# Altium footprint library PcbLib.PcbLib: 27 footprints (part 1 of 2)
Each footprint in its own frame and in the unit in brackets; x right, y up, seen from the top. Pads: shape width x height; smd on the part's side, far side on the other; paste and mask are expansions set on the pad; w line width, h text height; cw(c..) or ccw(c..) is an arc to the next point about the centre after c.
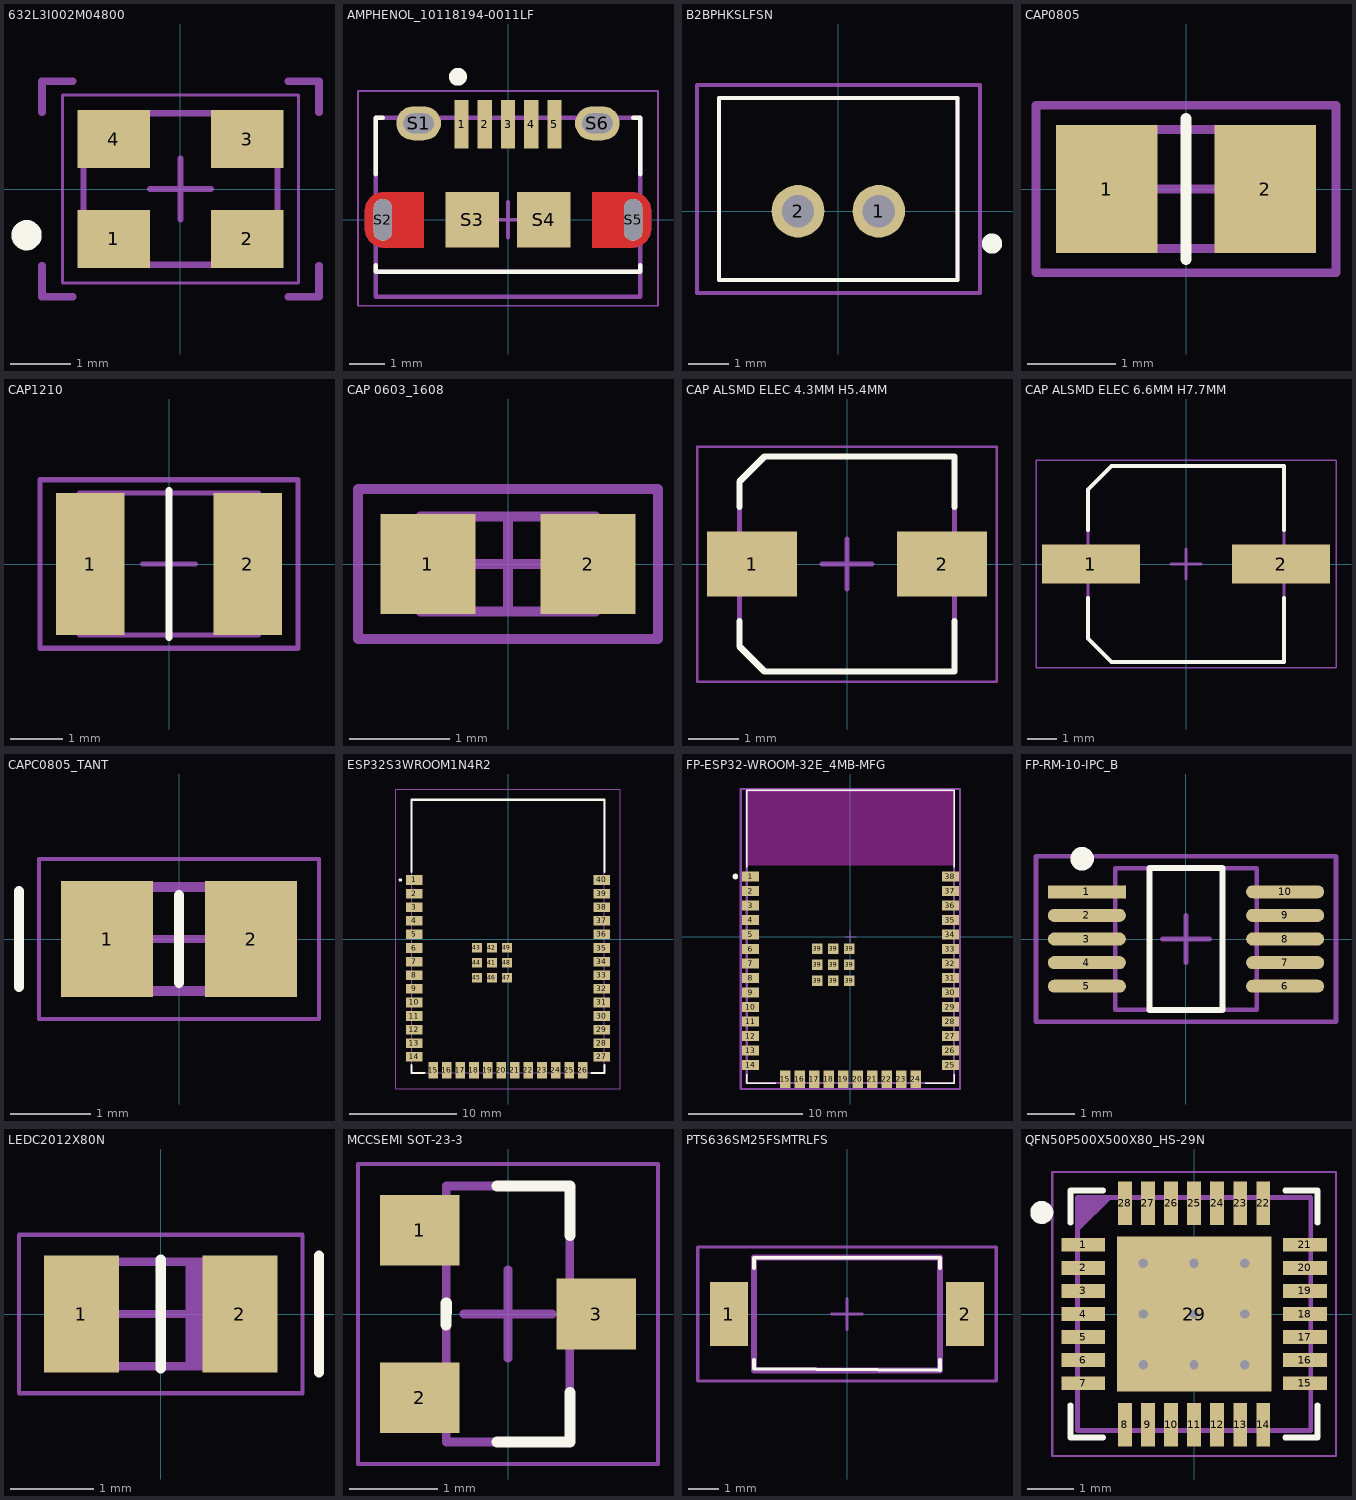
[diagram p0: the footprints below, top view; thin cyan lines are the x and y axes]

## 632L3I002M04800 [mm]
pads (4):
  rect 1.2x0.95 smd: 1(-1.1,-0.825) 2(1.1,-0.825) 3(1.1,0.825) 4(-1.1,0.825)
Top Overlay:
  circle w0.25: c-2.54,-0.762 r0.125
Top 3D Body:
  lines w0.125: -2.286,-1.27 -2.286,-1.778 -1.778,-1.778 ; -2.286,1.27 -2.286,1.778 -1.778,1.778 ; 1.778,-1.778 2.286,-1.778 2.286,-1.27 ; 1.778,1.778 2.286,1.778 2.286,1.27
Mechanical 11:
  lines w0.1: -1.6,-1.25 1.6,-1.25 1.6,1.25 -1.6,1.25 -1.6,-1.25
Mechanical 15:
  lines w0.05: -1.95,-1.55 1.95,-1.55 1.95,1.55 -1.95,1.55 -1.95,-1.55
  lines w0.1: -0.5,0 0.5,0 ; 0,-0.5 0,0.5
3D body "ECS-327KE-TR--3DModel-STEP-40055.STEP": height 1.01, standoff 0.01, extent -1.6,-1.25 1.6,1.25

## AMPHENOL_10118194-0011LF [mm]
height 2.7
pads (11):
  rect 0.4x1.35 smd: 1(-1.3,2.675) 2(-0.65,2.675) 3(0,2.675) 4(0.65,2.675) 5(1.3,2.675)
  oval 1.25x0.95 hole 0.55 slot 0.851 at 0 deg: S1(-2.5,2.7) S6(2.5,2.7)
  oval 0.525x1.175 hole 0.5 slot 1.15 at 90 deg: S2(-3.5,0) S5(3.5,0)
  rect 1.5x1.55 smd: S3(-1,0) S4(1,0)
Top Layer:
  region: 3.5,0.775 3.534,0.773 3.602,0.761 3.668,0.74 3.73,0.711 3.788,0.674 3.841,0.629 3.887,0.578 3.926,0.521 3.958,0.46 3.981,0.395 3.996,0.328 4.002,0.259 4,0.225 4,-0.225 4.002,-0.259 3.996,-0.328 3.981,-0.395 3.958,-0.46 3.926,-0.521 3.887,-0.578 3.841,-0.629 3.788,-0.674 3.73,-0.711 3.668,-0.74 3.602,-0.761 3.534,-0.773 3.5,-0.775 2.355,-0.775 2.355,0.775
  region: -3.5,-0.775 -3.534,-0.773 -3.602,-0.761 -3.668,-0.74 -3.73,-0.711 -3.788,-0.674 -3.841,-0.629 -3.887,-0.578 -3.926,-0.521 -3.958,-0.46 -3.981,-0.395 -3.996,-0.328 -4.002,-0.259 -4,-0.225 -4,0.225 -4.002,0.259 -3.996,0.328 -3.981,0.395 -3.958,0.46 -3.926,0.521 -3.887,0.578 -3.841,0.629 -3.788,0.674 -3.73,0.711 -3.668,0.74 -3.602,0.761 -3.534,0.773 -3.5,0.775 -2.355,0.775 -2.355,-0.775
Bottom Layer:
  region: 3.5,0.775 3.534,0.773 3.602,0.761 3.668,0.74 3.73,0.711 3.788,0.674 3.841,0.629 3.887,0.578 3.926,0.521 3.958,0.46 3.981,0.395 3.996,0.328 4.002,0.259 4,0.225 4,-0.225 4.002,-0.259 3.996,-0.328 3.981,-0.395 3.958,-0.46 3.926,-0.521 3.887,-0.578 3.841,-0.629 3.788,-0.674 3.73,-0.711 3.668,-0.74 3.602,-0.761 3.534,-0.773 3.5,-0.775 2.355,-0.775 2.355,0.775
  region: -3.5,-0.775 -3.534,-0.773 -3.602,-0.761 -3.668,-0.74 -3.73,-0.711 -3.788,-0.674 -3.841,-0.629 -3.887,-0.578 -3.926,-0.521 -3.958,-0.46 -3.981,-0.395 -3.996,-0.328 -4.002,-0.259 -4,-0.225 -4,0.225 -4.002,0.259 -3.996,0.328 -3.981,0.395 -3.958,0.46 -3.926,0.521 -3.887,0.578 -3.841,0.629 -3.788,0.674 -3.73,0.711 -3.668,0.74 -3.602,0.761 -3.534,0.773 -3.5,0.775 -2.355,0.775 -2.355,-0.775
Top Overlay:
  circle w0.25: c-1.4,4 r0.125
  lines w0.125: -3.7,-1.27 -3.7,-1.45 3.7,-1.45 3.7,-1.27 ; -3.7,1.27 -3.7,2.85 -3.505,2.85 ; 3.505,2.85 3.7,2.85 3.7,1.27
Mechanical 11:
  lines w0.127: -3.7,-1.45 -3.7,-2.15 3.7,-2.15 3.7,-1.45 ; -3.7,-1.45 -3.7,2.85 3.7,2.85 3.7,-1.45 ; -3.7,-1.45 3.7,-1.45
Mechanical 15:
  lines w0.05: -4.195,-2.4 -4.195,3.6 4.195,3.6 4.195,-2.4 -4.195,-2.4
  lines w0.1: -0.5,0 0.5,0 ; 0,-0.5 0,0.5
3D body "10118194-xx1xLF.STEP": height 2.62, standoff -0.59, extent -3.815,-2.513 3.7,2.913

## B2BPHKSLFSN [mm]
pads (2):
  round 1.3 hole 0.8: 1(1,0) 2(-1,0)
Top Overlay:
  circle w0.25: c3.8,-0.8 r0.125
  lines w0.1: -2.95,-1.7 -2.95,2.8 2.95,2.8 2.95,-1.7 -2.95,-1.7
Mechanical 11:
  lines w0.1: -2.95,-1.7 -2.95,2.8 2.95,2.8 2.95,-1.7 -2.95,-1.7
Mechanical 15:
  lines w0.1: -3.5,-2.02 3.5,-2.02 3.5,3.12 -3.5,3.12 -3.5,-2.02
3D body "B2B-PH-K-S__LF__SN_.stp": height 5.91, standoff -3.49, extent -2.95,-1.53 2.95,2.97

## CAP0805 [mm] "Chip Capacitor, 2-Leads, Body 2.00x1.25mm, IPC Medium Density"
height 1
pads (2):
  rect 1.15x1.45 smd: 1(-0.9,0) 2(0.9,0)
Top Overlay:
  lines w0.127: 0,-0.8 0,0.8
Mechanical 11:
  lines w0.1: -1.075,-0.675 -1.075,0.675 1.075,0.675 1.075,-0.675 -1.075,-0.675
Mechanical 15:
  lines w0.1: -0.5,0 0.5,0 ; 0,-0.5 0,0.5 ; -1.7,-0.95 -1.7,0.95 1.7,0.95 1.7,-0.95 -1.7,-0.95
3D body: height 1, standoff 0, extent -0.575,-0.675 0.575,0.675
3D body: height 1, standoff 0, extent 0.575,-0.675 1.075,0.675
3D body: height 1, standoff 0, extent -1.075,-0.675 -0.575,0.675

## CAP1210 [mm] "Chip Capacitor, 2-Leads, Body 3.20x2.50mm, IPC Medium Density"
height 1
pads (2):
  rect 1.3x2.7 smd: 1(-1.5,0) 2(1.5,0)
Top Overlay:
  lines w0.127: 0,-1.4 0,1.4
Mechanical 11:
  lines w0.1: -1.7,-1.35 -1.7,1.35 1.7,1.35 1.7,-1.35 -1.7,-1.35
Mechanical 15:
  lines w0.1: -0.5,0 0.5,0 ; 0,-0.5 0,0.5 ; -2.45,-1.6 2.45,-1.6 2.45,1.6 -2.45,1.6 -2.45,-1.6
3D body "CAP 1210-1mm.STEP": height 1, standoff 0, extent -1.6,-1.25 1.6,1.25

## CAP 0603_1608 [mm] "Chip Capacitor, 2-Leads, Body 1.60x0.80mm, IPC Medium Density"
height 0.89
pads (2):
  rect 0.95x1 smd: 1(-0.8,0) 2(0.8,0)
Mechanical 11:
  lines w0.1: -0.875,-0.475 -0.875,0.475 0.875,0.475 0.875,-0.475 -0.875,-0.475
Mechanical 15:
  lines w0.1: -0.475,0 0.475,0 ; 0,-0.475 0,0.475 ; -1.5,-0.75 1.5,-0.75 1.5,0.75 -1.5,0.75 -1.5,-0.75
3D body "0603 cap.STEP": height 0.82, standoff 0, extent -0.8,-0.412 0.8,0.412

## CAP ALSMD ELEC 4.3MM H5.4MM [mm] "Aluminum SMD Electrolytic Capacitor, 4.30mm Land Size, 4.00mm Diameter, 5.40mm Height, 4.60mm Maximum Leads Span"
height 0.65
pads (2):
  rect 1.8x1.3 smd: 1(-1.9,0) 2(1.9,0)
Top Overlay:
  lines w0.125: -2.15,-1.143 -2.15,-1.65 -1.65,-2.15 2.15,-2.15 2.15,-1.143 ; -2.15,1.143 -2.15,1.65 -1.65,2.15 2.15,2.15 2.15,1.143
Mechanical 11:
  lines w0.1: -2.15,-1.65 -1.65,-2.15 2.15,-2.15 2.15,2.15 -1.65,2.15 -2.15,1.65 -2.15,-1.65
Mechanical 15:
  lines w0.05: -3,-2.35 3,-2.35 3,2.35 -3,2.35 -3,-2.35
  lines w0.1: -0.5,0 0.5,0 ; 0,-0.5 0,0.5
3D body ".STEP": height 5.4, standoff 0, extent -2.3,-2.15 2.3,2.15

## CAP ALSMD ELEC 6.6MM H7.7MM [mm] "Aluminum SMD Electrolytic Capacitor, 6.60mm Land Size, 6.30mm Diameter, 7.70mm Height, 8.00mm Maximum Leads Span"
height 0.65
pads (2):
  rect 3.3x1.3 smd: 1(-3.2,0) 2(3.2,0)
Top Overlay:
  lines w0.125: -3.3,-1.143 -3.3,-2.512 -2.512,-3.3 3.3,-3.3 3.3,-1.143 ; -3.3,1.143 -3.3,2.512 -2.512,3.3 3.3,3.3 3.3,1.143
Mechanical 11:
  lines w0.1: -3.3,-2.512 -3.3,2.512 -2.512,3.3 3.3,3.3 3.3,-3.3 -2.512,-3.3 -3.3,-2.512
Mechanical 15:
  lines w0.05: -5.05,-3.5 5.05,-3.5 5.05,3.5 -5.05,3.5 -5.05,-3.5
  lines w0.1: -0.5,0 0.5,0 ; 0,-0.5 0,0.5
3D body ".STEP": height 7.7, standoff 0, extent -4,-3.3 4,3.3

## CAPC0805_TANT [mm]
pads (2):
  rect 1.15x1.45 smd: 1(-0.9,0) 2(0.9,0)
Top Overlay:
  lines w0.125: -2,-0.6 -2,0.6 ; 0,-0.55 0,0.55
Mechanical 11:
  region: -0.5,-0.65 -1,-0.65 -1,0.65 -0.5,0.65
  region: 1,-0.65 0.5,-0.65 0.5,0.65 1,0.65
  lines w0.127: -1,-0.65 1,-0.65 1,0.65 -1,0.65 -1,-0.65
Mechanical 15:
  lines w0.05: -1.75,-1 -1.75,1 1.75,1 1.75,-1 -1.75,-1
  lines w0.1: -0.5,0 0.5,0 ; 0,-0.5 0,0.5
3D body "TPSR105K025R4000.STEP": height 1.21, standoff 0.01, extent -1.025,-0.65 1.025,0.65

## ESP32S3WROOM1N4R2 [mm]
pads (49):
  rect 1.5x0.9 smd: 1(-8.75,5.51) 2(-8.75,4.24) 3(-8.75,2.97) 4(-8.75,1.7) 5(-8.75,0.43) 6(-8.75,-0.84) 7(-8.75,-2.11) 8(-8.75,-3.38) 9(-8.75,-4.65) 10(-8.75,-5.92) 11(-8.75,-7.19) 12(-8.75,-8.46) 13(-8.75,-9.73) 14(-8.75,-11) 27(8.75,-11) 28(8.75,-9.73) 29(8.75,-8.46) 30(8.75,-7.19) 31(8.75,-5.92) 32(8.75,-4.65) 33(8.75,-3.38) 34(8.75,-2.11) 35(8.75,-0.84) 36(8.75,0.43) 37(8.75,1.7) 38(8.75,2.97) 39(8.75,4.24) 40(8.75,5.51)
  rect 0.9x1.5 smd: 15(-6.985,-12.25) 16(-5.715,-12.25) 17(-4.445,-12.25) 18(-3.175,-12.25) 19(-1.905,-12.25) 20(-0.635,-12.25) 21(0.635,-12.25) 22(1.905,-12.25) 23(3.175,-12.25) 24(4.445,-12.25) 25(5.715,-12.25) 26(6.985,-12.25)
  rect 0.9x0.9 smd: 41(-1.5,-2.21) 42(-1.5,-0.81) 43(-2.9,-0.81) 44(-2.9,-2.21) 45(-2.9,-3.61) 46(-1.5,-3.61) 47(-0.1,-3.61) 48(-0.1,-2.21) 49(-0.1,-0.81)
Top Overlay:
  lines w0.2: -9,-11.75 -9,-12.5 -7.8,-12.5 ; -9,6.25 -9,13 9,13 9,6.25 ; 7.8,-12.5 9,-12.5 9,-11.75 ; -10.1,5.51 ccw(c-10.05,5.51) -10,5.51 ; -10.1,5.51 cw(c-10.05,5.51) -10,5.51 ; -10.1,5.51 ccw(c-10.05,5.51) -10,5.51
Mechanical 15:
  lines w0.1: -9,-12.5 9,-12.5 9,13 -9,13 -9,-12.5
Bottom Assembly:
  lines w0.1: -10.5,-14 10.5,-14 10.5,14 -10.5,14 -10.5,-14
3D body "ESP32-S3-WROOM-1-N4R2.stp": height 3.35, standoff 0, extent -9,-12.5 9,13

## FP-ESP32-WROOM-32E_4MB-MFG [mm]
pads (47):
  rect 1.5x0.9 smd paste+0 mask+0: 1(-8.75,5.26) 2(-8.75,3.99) 3(-8.75,2.72) 4(-8.75,1.45) 5(-8.75,0.18) 6(-8.75,-1.09) 7(-8.75,-2.36) 8(-8.75,-3.63) 9(-8.75,-4.9) 10(-8.75,-6.17) 11(-8.75,-7.44) 12(-8.75,-8.71) 13(-8.75,-9.98) 14(-8.75,-11.25) 25(8.75,-11.25) 26(8.75,-9.98) 27(8.75,-8.71) 28(8.75,-7.44) 29(8.75,-6.17) 30(8.75,-4.9) 31(8.75,-3.63) 32(8.75,-2.36) 33(8.75,-1.09) 34(8.75,0.18) 35(8.75,1.45) 36(8.75,2.72) 37(8.75,3.99) 38(8.75,5.26)
  rect 0.9x1.5 smd paste+0 mask+0: 15(-5.71,-12.5) 16(-4.44,-12.5) 17(-3.17,-12.5) 18(-1.9,-12.5) 19(-0.63,-12.5) 20(0.64,-12.5) 21(1.91,-12.5) 22(3.18,-12.5) 23(4.45,-12.5) 24(5.72,-12.5)
  rect 0.9x0.9 smd paste+0 mask+0: 39(-2.9,-3.86) 39(-2.9,-2.46) 39(-2.9,-1.06) 39(-1.5,-3.86) 39(-1.5,-2.46) 39(-1.5,-1.06) 39(-0.1,-3.86) 39(-0.1,-2.46) 39(-0.1,-1.06)
Top Overlay:
  circle w0.25: c-10.075,5.26 r0.125
  lines w0.125: -9.075,-12.075 -9.075,-12.825 -6.535,-12.825 ; -9.075,6.085 -9.075,12.825 9.075,12.825 9.075,6.085 ; 6.545,-12.825 9.075,-12.825 9.075,-12.075
Keep-Out Layer:
  rectangle: -9,6.205 9,12.8
Top Courtyard:
  lines w0.2: -9.6,-13.35 9.6,-13.35 9.6,12.925 -9.6,12.925 -9.6,-13.35
Mechanical 11:
  lines w0.2: -9.075,-12.825 -9.075,12.825 9.075,12.825 9.075,-12.825 -9.075,-12.825
Mechanical 15:
  lines w0.1: -0.5,0 0.5,0 ; 0,-0.5 0,0.5
  lines w0.2: -9.6,-13.35 -9.6,12.925 9.6,12.925 9.6,-13.35 -9.6,-13.35
3D body "UNK_Espressif_Systems_ESP32-WROOM-32E_4MB_eec.STEP": height 3.25, standoff 0, extent -9,-12.75 9,12.75

## FP-RM-10-IPC_B [mm]
pads (10):
  rect 1.654x0.276 smd paste+0 mask+0: 1(-2.1,1)
  rrect100% 1.654x0.276 smd paste+0 mask+0: 2(-2.1,0.5) 3(-2.1,0) 4(-2.1,-0.5) 5(-2.1,-1) 6(2.1,-1) 7(2.1,-0.5) 8(2.1,0) 9(2.1,0.5) 10(2.1,1)
Top Overlay:
  circle w0.25: c-2.2,1.7 r0.125
  lines w0.125: -0.773,-1.5 -0.773,1.5 0.773,1.5 0.773,-1.5 -0.773,-1.5
Mechanical 11:
  lines w0.1: -1.5,-1.5 -1.5,1.5 1.5,1.5 1.5,-1.5 -1.5,-1.5
Mechanical 15:
  lines w0.1: -0.5,0 0.5,0 ; 0,-0.5 0,0.5 ; -3.177,-1.75 3.177,-1.75 3.177,1.75 -3.177,1.75 -3.177,-1.75
3D body "IC_Analog_Devices_ADG804YRMZ-REEL7_eec.STEP": height 1.1, standoff 0, extent -2.45,-1.5 2.45,1.5

## LEDC2012X80N [mm]
pads (2):
  rect 0.9x1.4 smd: 1(-0.95,0) 2(0.95,0)
Top Overlay:
  lines w0.125: 0,-0.65 0,0.65 ; 1.9,-0.7 1.9,0.7
Mechanical 15:
  lines w0.05: -1.7,-0.95 -1.7,0.95 1.7,0.95 1.7,-0.95 -1.7,-0.95
  lines w0.1: -0.5,0 0.5,0 ; 0,-0.5 0,0.5
Bottom Courtyard:
  region: 0.3,0.625 0.325,0.6 1,0.6 1,-0.6 0.975,-0.625 0.3,-0.625
  lines w0.1: -1,-0.625 1,-0.625 1,0.625 -1,0.625 -1,-0.625
3D body "150080BS75000.stp": height 0.71, standoff 0.01, extent -1,-0.625 1,0.625

## MCCSEMI SOT-23-3 [mm] "SOT23, 3-Leads, Body 2.92x2.37mm, Pitch 0.95mm, IPC Medium Density"
height 1.12
pads (3):
  rect 0.9x0.8 smd: 1(-1,0.95) 2(-1,-0.95) 3(1,0)
Top Overlay:
  lines w0.125: -0.7,-0.127 -0.7,0.127 ; -0.127,-1.45 0.7,-1.45 0.7,-0.889 ; -0.127,1.45 0.7,1.45 0.7,0.889
Mechanical 11:
  lines w0.1: -0.7,-1.45 0.7,-1.45 0.7,1.45 -0.7,1.45 -0.7,-1.45
Mechanical 15:
  lines w0.05: -1.7,-1.7 1.7,-1.7 1.7,1.7 -1.7,1.7 -1.7,-1.7
  lines w0.1: -0.5,0 0.5,0 ; 0,-0.5 0,0.5
3D body "sot-23-3-nxp.STEP": height 1.5, standoff 0, extent -1.16,-1.45 1.161,1.45

## PTS636SM25FSMTRLFS [mm]
pads (2):
  rect 1.25x2.1 smd: 1(-3.875,0) 2(3.875,0)
Top Overlay:
  lines w0.125: -3.05,-1.505 -3.05,-1.8 3.05,-1.85 3.05,-1.5 ; -3.05,1.5 -3.05,1.85 3.05,1.85 3.05,1.5
Mechanical 11:
  lines w0.2: -3.05,-1.85 -3.05,1.85 3.05,1.85 3.05,-1.85 -3.05,-1.85
Mechanical 15:
  lines w0.1: -0.5,0 0.5,0 ; 0,-0.5 0,0.5 ; -4.9,-2.2 4.9,-2.2 4.9,2.2 -4.9,2.2 -4.9,-2.2
3D body "PTS636_SM25F_SMTR_LFS.stp": height 2.8, standoff 0, extent -4.29,-1.85 4.29,1.85

## QFN50P500X500X80_HS-29N [mm] "QFN, 28-Leads, Body 5.00x5.00mm, Pitch 0.50mm, Thermal Pad 3.25x3.25mm, IPC Medium Density"
height 0.8
pads (29):
  rect 0.95x0.3 smd: 1(-2.4,1.5) 2(-2.4,1) 3(-2.4,0.5) 4(-2.4,0) 5(-2.4,-0.5) 6(-2.4,-1) 7(-2.4,-1.5) 15(2.4,-1.5) 16(2.4,-1) 17(2.4,-0.5) 18(2.4,0) 19(2.4,0.5) 20(2.4,1) 21(2.4,1.5)
  rect 0.3x0.95 smd: 8(-1.5,-2.4) 9(-1,-2.4) 10(-0.5,-2.4) 11(0,-2.4) 12(0.5,-2.4) 13(1,-2.4) 14(1.5,-2.4) 22(1.5,2.4) 23(1,2.4) 24(0.5,2.4) 25(0,2.4) 26(-0.5,2.4) 27(-1,2.4) 28(-1.5,2.4)
  rect 3.35x3.35 smd: 29(0,0)
via -1.1,1.1 diameter 0.5 hole 0.2
via 0,1.1 diameter 0.5 hole 0.2
via 1.1,1.1 diameter 0.5 hole 0.2
via -1.1,0 diameter 0.5 hole 0.2
via 0,0 diameter 0.5 hole 0.2
via 1.1,0 diameter 0.5 hole 0.2
via -1.1,-1.1 diameter 0.5 hole 0.2
via 0,-1.1 diameter 0.5 hole 0.2
via 1.1,-1.1 diameter 0.5 hole 0.2
Top Overlay:
  circle w0.25: c-3.3,2.2 r0.125
  lines w0.125: -2.675,-1.975 -2.675,-2.675 -1.975,-2.675 ; -2.675,1.975 -2.675,2.675 -1.975,2.675 ; 1.975,-2.675 2.675,-2.675 2.675,-1.975 ; 1.975,2.675 2.675,2.675 2.675,1.975
Mechanical 11:
  region: -2.525,2.525 -2.525,1.825 -2.5,1.8 -1.8,2.5
  lines w0.1: -2.525,-2.525 -2.525,2.525 2.525,2.525 2.525,-2.525 -2.525,-2.525
Mechanical 15:
  lines w0.05: -3.075,-3.075 -3.075,3.075 3.075,3.075 3.075,-3.075 -3.075,-3.075
  lines w0.1: -0.5,0 0.5,0 ; 0,-0.5 0,0.5
3D body "QFN50P500X500X80_HS-29N.step": height 0.8, standoff 0, extent -2.526,-2.526 2.526,2.526